# Altium footprint library FPGALIB.PCBLIB: 27 footprints (part 1 of 2)
Each footprint in its own frame and in the unit in brackets; x right, y up, seen from the top. Pads: shape width x height; smd on the part's side, far side on the other; paste and mask are expansions set on the pad; w line width, h text height; cw(c..) or ccw(c..) is an arc to the next point about the centre after c.
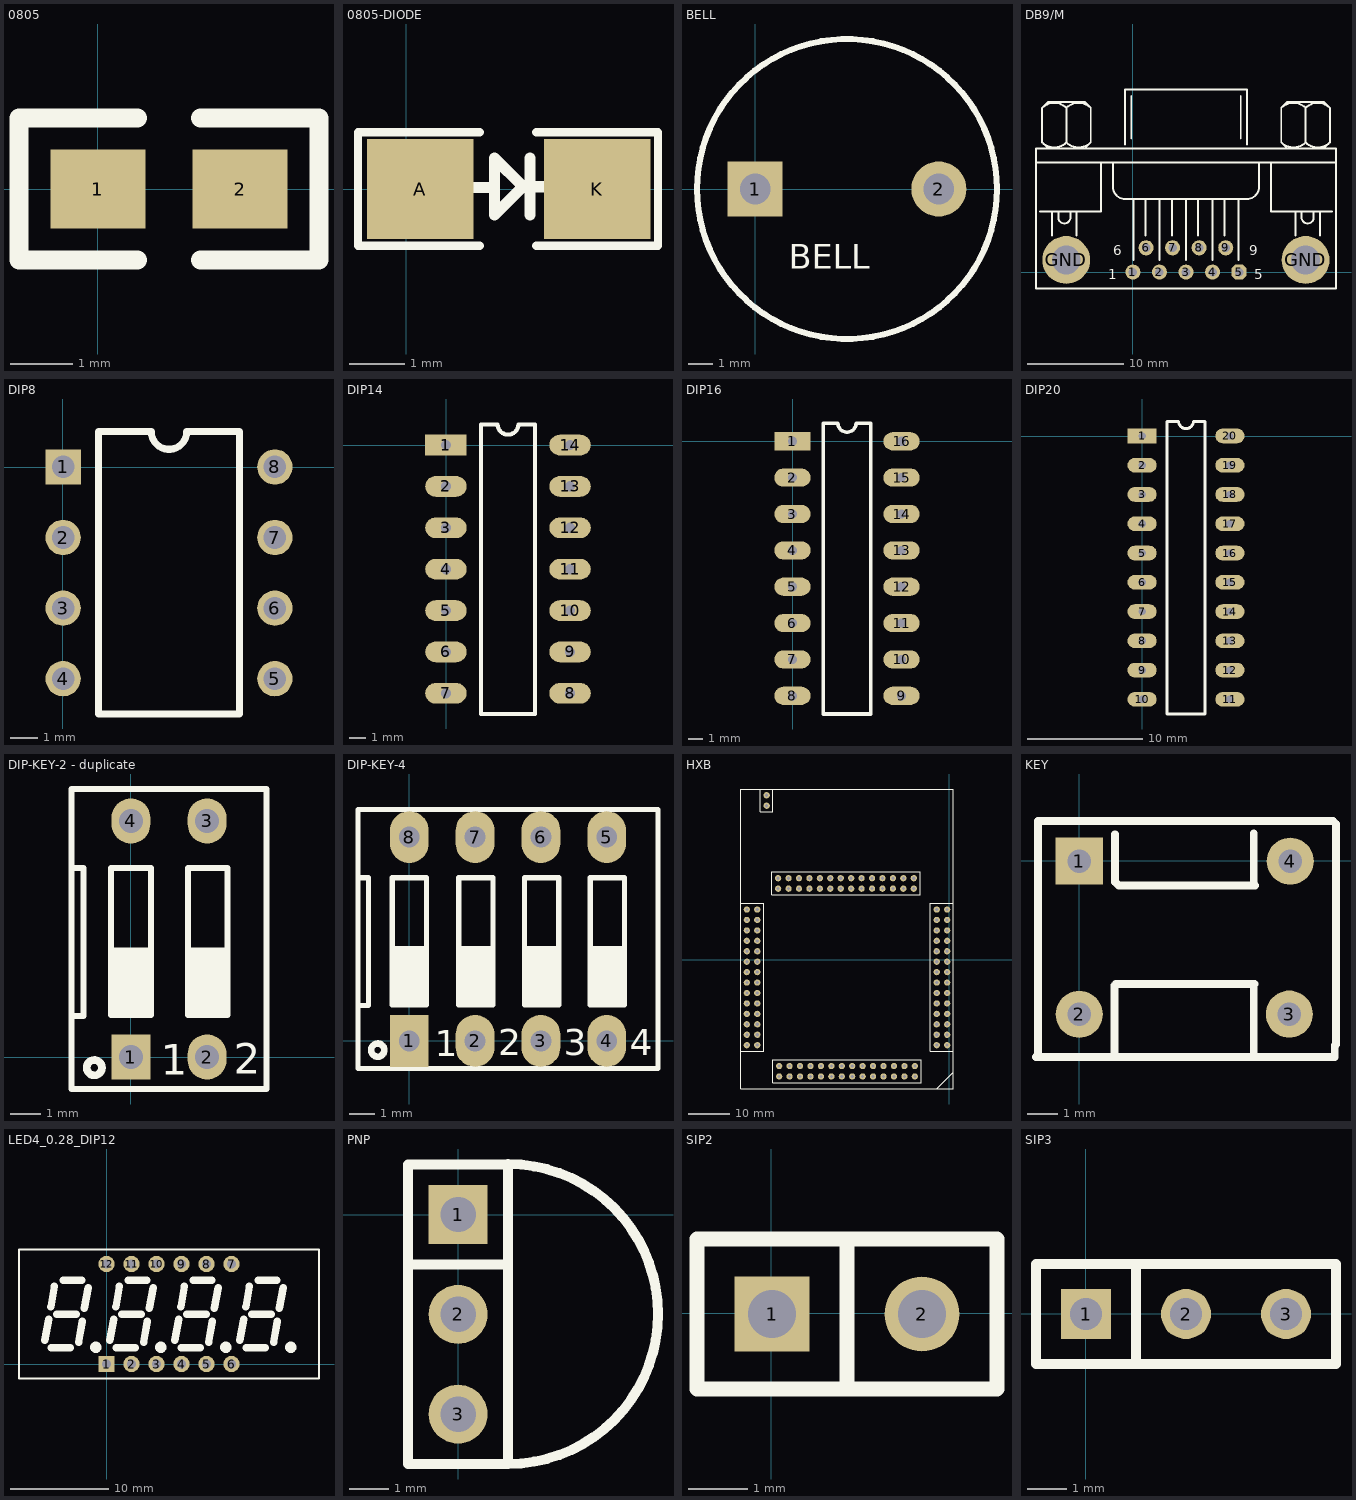
[diagram p0: the footprints below, top view; thin cyan lines are the x and y axes]

## 0805 [mil]
pads (2):
  rect 60x50 smd: 1(0,0) 2(90,0)
TopOverlay:
  lines w12: 25,-45 -50,-45 -50,45 25,45 ; 65,-45 140,-45 140,45 65,45

## 0805-DIODE [mil]
pads (2):
  rect 75.12x70.87 smd: A(10,0) K(135,0)
TopOverlay:
  lines w6: 52,-40 -34,-40 -34,40 52,40 ; 92,-40 178,-40 178,40 92,40
  lines w8: 37.89,1.11 62.51,1.11 ; 87.51,-18.32 87.51,21.68 ; 87.51,1.5 107.81,1.5 ; 62.51,-18.32 82.51,1.68 62.51,21.68 62.51,-18.32

## BELL [mil]
pads (2):
  rect 90x90 hole 50: 1(0,0)
  round 90 hole 50: 2(300,0)
TopOverlay:
  circle w10: c150,0 r245
  text "BELL" at 55,-130 h40

## DB9/M [mil]
pads (11):
  round 62 hole 35: 1(0,0) 2(109.17,0) 3(218.33,0) 4(327.5,0) 6(54.17,100) 7(163.33,100) 8(272.5,100) 9(381.67,100)
  oct 62x62 hole 35: 5(436.67,0)
  round 196.66 hole 118.33: GND(-274.17,50) GND(710,50)
TopOverlay:
  lines w8: -398.33,450 835,450 ; -381.67,250 -131.67,250 -131.67,450 ; -373.42,533.25 ccw(c-323.33,583.33) -273.25,533.25 ; -373.42,675.09 cw(c-323.33,625) -273.25,675.09 ; -348.33,508.33 -373.33,533.33 -373.33,675 -348.33,700 -198.33,700 -173.33,675 -173.33,533.33 -198.33,508.33 ; -331.67,150 -331.67,250 ; -306.67,250 -306.67,225 ccw(c-281.67,225) -256.67,225 -256.67,250 ; -273.42,533.25 ccw(c-223.33,583.33) -173.25,533.25 ; -273.42,675.09 cw(c-223.33,625) -173.25,675.09 ; -273.33,533.33 -273.33,675 ; -231.67,150 -231.67,250 ; -81.67,450 -81.67,350 ccw(c-31.67,350) -31.67,300 468.33,300 ccw(c468.33,350) 518.33,350 518.33,450 ; -31.67,525 -31.67,750 468.33,750 468.33,525 ; -6.67,550 -6.67,725 ; 1.67,50 1.67,300 ; 51.67,150 51.67,300 ; 110,50 110,300 ; 160,150 160,300 ; 218.33,50 218.33,300 ; 268.33,150 268.33,300 ; 326.67,50 326.67,300 ; 376.67,150 376.67,158.33 376.67,300 ; 435,50 435,300 ; 443.33,550 443.33,725 ; 568.33,450 568.33,250 818.33,250 ; 609.91,533.25 ccw(c660,583.33) 710.09,533.25 ; 609.91,675.09 cw(c660,625) 710.09,675.09 ; 635,508.33 610,533.33 610,675 635,700 785,700 810,675 810,533.33 785,508.33 ; 668.33,150 668.33,250 ; 693.33,250 693.33,225 ccw(c718.33,225) 743.33,225 743.33,250 ; 709.91,533.25 ccw(c760,583.33) 810.09,533.25 ; 709.91,675.09 cw(c760,625) 810.09,675.09 ; 710,533.33 710,675 ; 768.33,150 768.33,250 ; -398.33,-66.67 -398.33,508.33 835,508.33 835,-66.67 -398.33,-66.67
  text "6" at -81.67,70 h40
  text "1" at -101.67,-30 h40
  text "5" at 498.33,-30 h40
  text "9" at 478.33,70 h40

## DIP8 [mil]
pads (8):
  rect 50x50 hole 32: 1(0.5,0.18)
  round 50 hole 32: 2(0.5,-99.82) 3(0.5,-199.82) 4(0.5,-299.82) 5(300.5,-299.82) 6(300.5,-199.82) 7(300.5,-99.82) 8(300.5,0.18)
TopOverlay:
  lines w10: 50.5,-349.82 50.5,50.18 125.5,50.18 ccw(c150.5,50.18) 175.5,50.18 250.5,50.18 250.5,-349.82 50.5,-349.82

## DIP14 [mil]
pads (14):
  rect 100x50 hole 25: 1(-0.5,0.3)
  oval 100x50 hole 25: 2(-0.5,-99.7) 3(-0.5,-199.7) 4(-0.5,-299.7) 5(-0.5,-399.7) 6(-0.5,-499.7) 7(-0.5,-599.7) 8(299.5,-599.7) 9(299.5,-499.7) 10(299.5,-399.7) 11(299.5,-299.7) 12(299.5,-199.7) 13(299.5,-99.7) 14(299.5,0.3)
TopOverlay:
  lines w10: 84.5,-649.7 214.5,-649.7 214.5,50.3 174.5,50.3 cw(c149.5,50.3) 124.5,50.3 84.5,50.3 84.5,-649.7

## DIP16 [mil]
pads (16):
  rect 100x50 hole 25: 1(-0.5,0.26)
  oval 100x50 hole 25: 2(-0.5,-99.74) 3(-0.5,-199.74) 4(-0.5,-299.74) 5(-0.5,-399.74) 6(-0.5,-499.74) 7(-0.5,-599.74) 8(-0.5,-699.74) 9(299.5,-699.74) 10(299.5,-599.74) 11(299.5,-499.74) 12(299.5,-399.74) 13(299.5,-299.74) 14(299.5,-199.74) 15(299.5,-99.74) 16(299.5,0.26)
TopOverlay:
  lines w10: 84.5,-749.74 214.5,-749.74 214.5,50.26 174.5,50.26 cw(c149.5,50.26) 124.5,50.26 84.5,50.26 84.5,-749.74

## DIP20 [mil]
pads (20):
  rect 100x50 hole 25: 1(-0.5,0.22)
  oval 100x50 hole 25: 2(-0.5,-99.78) 3(-0.5,-199.78) 4(-0.5,-299.78) 5(-0.5,-399.78) 6(-0.5,-499.78) 7(-0.5,-599.78) 8(-0.5,-699.78) 9(-0.5,-799.78) 10(-0.5,-899.78) 11(299.5,-899.78) 12(299.5,-799.78) 13(299.5,-699.78) 14(299.5,-599.78) 15(299.5,-499.78) 16(299.5,-399.78) 17(299.5,-299.78) 18(299.5,-199.78) 19(299.5,-99.78) 20(299.5,0.22)
TopOverlay:
  lines w10: 84.5,-949.78 214.5,-949.78 214.5,50.22 174.5,50.22 cw(c149.5,50.22) 124.5,50.22 84.5,50.22 84.5,-949.78

## DIP-KEY-2 - duplicate [mm]
pads (4):
  rect 1.3x1.5 hole 0.8: 1(0,0)
  oval 1.3x1.5 hole 0.8: 2(2.54,0) 3(2.54,7.87) 4(0,7.87)
TopOverlay:
  circle w0.254: c-1.218,-0.354 r0.254
  rectangle: 1.906,1.399 3.227,3.659
  rectangle: -0.657,1.399 0.664,3.659
  lines w0.2: -1.98,1.373 -1.574,1.373 -1.574,6.301 -1.98,6.301 ; -1.98,-1.065 -1.98,8.935 4.52,8.935 4.52,-1.065 -1.98,-1.065 ; -0.657,1.399 -0.657,6.301 0.664,6.301 0.664,1.399 -0.657,1.399 ; 1.906,1.399 1.906,6.301 3.227,6.301 3.227,1.399 1.906,1.399
  text "2" at 3.43,-0.557 h1.02
  text "1" at 0.992,-0.582 h1.02

## DIP-KEY-4 [mm]
pads (8):
  rect 1.5x2 hole 0.8: 1(0,0)
  oval 1.5x2 hole 0.8: 2(2.54,0) 3(5.08,0) 4(7.62,0) 5(7.62,7.87) 6(5.08,7.87) 7(2.54,7.87) 8(0,7.87)
TopOverlay:
  circle w0.254: c-1.218,-0.354 r0.254
  rectangle: -0.657,1.399 0.664,3.659
  rectangle: 1.906,1.399 3.227,3.659
  rectangle: 4.446,1.399 5.767,3.659
  rectangle: 6.986,1.399 8.307,3.659
  lines w0.2: -1.98,1.373 -1.574,1.373 -1.574,6.301 -1.98,6.301 ; 9.598,-1.065 -1.98,-1.065 -1.98,8.935 9.598,8.927 ; 9.6,-1.065 9.6,8.935 ; -0.657,1.399 0.664,1.399 0.664,6.301 -0.657,6.301 -0.657,1.399 ; 1.906,1.399 3.227,1.399 3.227,6.301 1.906,6.301 1.906,1.399 ; 4.446,1.399 5.767,1.399 5.767,6.301 4.446,6.301 4.446,1.399 ; 6.986,1.399 8.307,1.399 8.307,6.301 6.986,6.301 6.986,1.399
  text "1" at 0.992,-0.582 h1.02
  text "2" at 3.43,-0.557 h1.02
  text "3" at 5.97,-0.557 h1.02
  text "4" at 8.51,-0.557 h1.02

## HXB [mil]
pads (114):
  round 60 hole 30: 1(-340,780) 2(-440,780) 3(-540,780) 4(-640,780) 5(-740,780) 5VCC(-1750,1475) 6(-840,780) 7(-940,780) 8(-1040,780) 9(-1140,780) 10(-1240,780) 11(-1340,780) 12(-1440,780) 13(-1540,780) 14(-1640,780) 15(-340,680) 16(-440,680) 17(-540,680) 18(-640,680) 19(-740,680) 20(-840,680) 21(-940,680) 22(-1040,680) 23(-1140,680) 24(-1240,680) 25(-1340,680) 26(-1440,680) 27(-1540,680) 28(-1640,680) 29(-1940,480) 30(-1940,380) 31(-1940,280) 32(-1940,180) 33(-1940,80) 34(-1940,-20) 35(-1940,-120) 36(-1940,-220) 37(-1940,-320) 38(-1940,-420) 39(-1940,-520) 40(-1940,-620) 41(-1940,-720) 42(-1940,-820) 43(-1840,480) 44(-1840,380) 45(-1840,280) 46(-1840,180) 47(-1840,80) 48(-1840,-20) 49(-1840,-120) 50(-1840,-220) 51(-1840,-320) 52(-1840,-420) 53(-1840,-520) 54(-1840,-620) 55(-1840,-720) 56(-1840,-820) 57(-330,-1020) 58(-430,-1020) 59(-530,-1020) 60(-630,-1020) 61(-730,-1020) 62(-830,-1020) 63(-930,-1020) 64(-1030,-1020) 65(-1130,-1020) 66(-1230,-1020) 67(-1330,-1020) 68(-1430,-1020) 69(-1530,-1020) 70(-1630,-1020) 71(-330,-1120) 72(-430,-1120) 73(-530,-1120) 74(-630,-1120) 75(-730,-1120) 76(-830,-1120) 77(-930,-1120) 78(-1030,-1120) 79(-1130,-1120) 80(-1230,-1120) 81(-1330,-1120) 82(-1430,-1120) 83(-1530,-1120) 84(-1630,-1120) 85(-120,480) 86(-120,380) 87(-120,280) 88(-120,180) 89(-120,80) 90(-120,-20) 91(-120,-120) 92(-120,-220) 93(-120,-320) 94(-120,-420) 95(-120,-520) 96(-120,-620) 97(-120,-720) 98(-120,-820) 99(-20,480) 100(-20,380) 101(-20,280) 102(-20,180) 103(-20,80) 104(-20,-20) 105(-20,-120) 106(-20,-220) 107(-20,-320) 108(-20,-420) 109(-20,-520) 110(-20,-620) 111(-20,-720) 112(-20,-820) GND(-1750,1575)
TopOverlay:
  lines w10: -2000,440 -2000,380 -2000,-880 ; -120,-1240 40,-1080 40,-1060 ; 40,440 40,-820 40,-880 -180,-880 -180,380 -180,440 -180,540 40,540 ; -2000,-880 -1780,-880 ; -2000,-880 -2000,470 -2000,540 -1780,540 ; -2000,-880 -1780,-880 ; -1780,-880 -1780,-820 -1780,440 -1780,540 ; -1780,-880 -1780,540 ; -2000,-1240 -2000,1635 40,1635 40,-1240 -2000,-1240 ; -1810,1415 -1750,1415 -1690,1415 -1690,1635 -1750,1635 -1810,1635 -1810,1415 ; -1700,620 -1700,840 -350,840 -280,840 -280,620 -1700,620 ; -1690,-1180 -1690,-960 -340,-960 -270,-960 -270,-1180 -1690,-1180

## KEY [mil]
pads (4):
  rect 60x60 hole 30: 1(0.12,-0.42)
  round 60 hole 30: 2(0.12,-195.69) 3(267.83,-195.3) 4(269.02,-0.42)
TopOverlay:
  lines w10: -52.64,50.76 -52.64,-247.66 -55,-250.02 -45.55,-250.02 325.71,-250.02 325.71,-235.46 ; -48.7,50.76 323.35,50.76 ; 45,-243.73 45,-158.69 46.58,-157.11 223.35,-157.11 ; 45.79,33.83 45.79,-26.8 50.51,-31.52 224.13,-31.52 222.56,-29.95 222.56,34.62 ; 222.56,-242.94 222.56,-159.47 ; 327.28,-233.88 327.28,46.83

## LED4_0.28_DIP12 [mil]
pads (12):
  rect 65x65 hole 35.43: 1(0,0)
  round 65 hole 35.43: 2(100,0) 3(200,0) 4(300,0) 5(400,0) 6(500,0) 7(500,400) 8(400,400) 9(300,400) 10(200,400) 11(100,400) 12(0,400)
TopOverlay:
  circle w33.86: c736.93,66.93 r5.91
  circle w33.86: c476.93,66.93 r5.91
  circle w33.86: c216.93,66.93 r5.91
  circle w33.86: c-43.07,66.93 r5.91
  lines w7.87: -350,-57.87 850,-57.87 850,457.87 -350,457.87 ; -349.49,-57.87 -349.49,457.87
  lines w30: -246.22,94.09 -231.26,179.53 ; -222.2,229.92 -208.03,311.81 ; -221.42,64.96 -145.83,64.96 ; -199.53,200 -120.47,200 ; -173.39,335.04 -98.98,335.04 ; -111.97,86.22 -97.4,170.08 ; -88.35,222.05 -73.39,305.91 ; 13.78,94.09 28.74,179.53 ; 37.8,229.92 51.97,311.81 ; 38.58,64.96 114.17,64.96 ; 60.47,200 139.53,200 ; 86.61,335.04 161.02,335.04 ; 148.03,86.22 162.6,170.08 ; 171.65,222.05 186.61,305.91 ; 273.78,94.09 288.74,179.53 ; 297.8,229.92 311.97,311.81 ; 298.58,64.96 374.17,64.96 ; 320.47,200 399.53,200 ; 346.61,335.04 421.02,335.04 ; 408.03,86.22 422.6,170.08 ; 431.65,222.05 446.61,305.91 ; 533.78,94.09 548.74,179.53 ; 557.8,229.92 571.97,311.81 ; 558.58,64.96 634.17,64.96 ; 580.47,200 659.53,200 ; 606.61,335.04 681.02,335.04 ; 668.03,86.22 682.6,170.08 ; 691.65,222.05 706.61,305.91

## PNP [mm]
pads (3):
  rect 1.5x1.5 hole 0.9: 1(0,0)
  round 1.5 hole 0.9: 2(0,-2.54) 3(0,-5.08)
TopOverlay:
  lines w0.254: -1.27,-1.27 1.27,-1.27 ; 1.27,1.287 cw(c1.27,-2.532) 1.27,-6.35 ; 1.27,-6.35 1.27,1.27 -1.27,1.27 -1.27,-6.35 1.27,-6.35

## SIP2 [mil]
pads (2):
  rect 50x50 hole 32: 1(0.5,-0.44)
  round 50 hole 32: 2(100.5,-0.44)
TopOverlay:
  lines w10: 50.5,-50.44 50.5,49.56 ; -49.5,-50.44 -49.5,49.56 150.5,49.56 150.5,-50.44 -49.5,-50.44

## SIP3 [mil]
pads (3):
  rect 50x50 hole 32: 1(0.5,-0.47)
  round 50 hole 32: 2(100.5,-0.47) 3(200.5,-0.47)
TopOverlay:
  lines w10: 50.5,-50.47 50.5,49.53 ; -49.5,-50.47 250.5,-50.47 250.5,49.53 -49.5,49.53 -49.5,-50.47